# Altium schematic symbol library thuvienkhoimachdientu.SchLib: 3 symbols
Pins are listed as number, name and electrical type; pins without a type are passive.

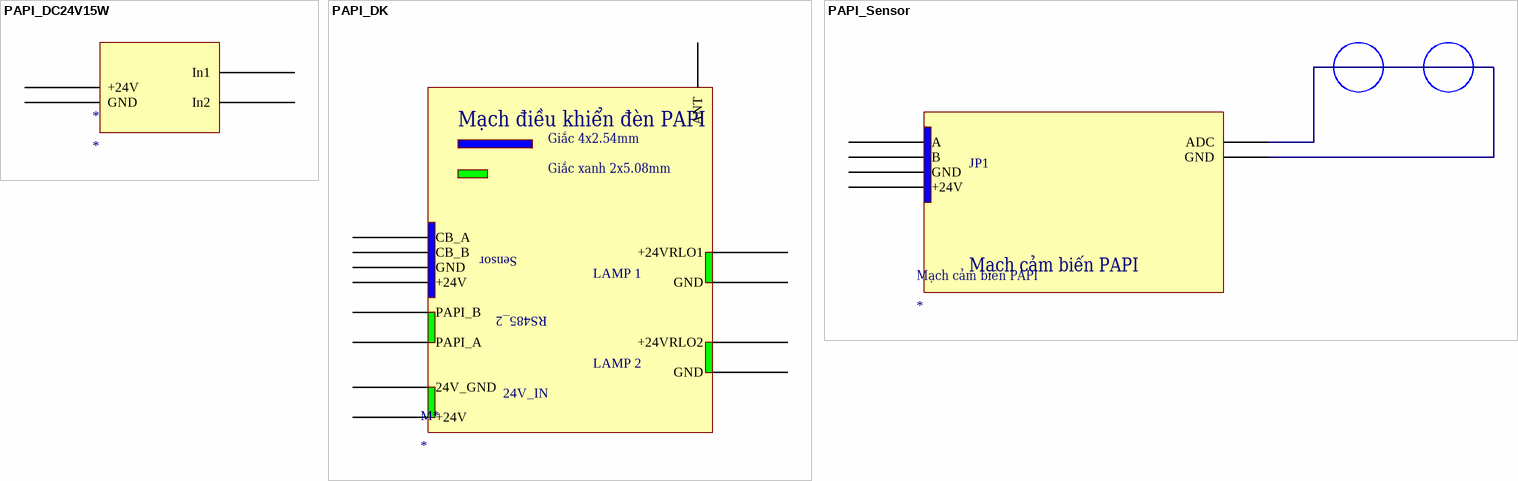
[diagram p0: symbols PAPI_DC24V15W to PAPI_Sensor]

## PAPI_DC24V15W
designator *
pins: +24V, GND, In1, In2

## PAPI_DK
designator M*
pins: 24V_GND, +24V, +24V, ANT (power), Contact 1_1 +24VRLO1, Contact 1_2 GND, Contact 2_1 +24VRLO2, Contact 2_2 GND, GND, RS485_1A CB_A, RS485_1B CB_B, RS485_2A PAPI_B, RS485_2B PAPI_A
text: Mạch điều khiển đèn PAPI; Giắc 4x2.54mm; Giắc xanh 2x5.08mm; Sensor; LAMP 1; RS485_2; LAMP 2; 24V_IN

## PAPI_Sensor
designator Mạch cảm biến PAPI
pins: +24V, A, ADC (power), B, GND, GND (power)
text: JP1